# Altium schematic symbol library AD8628ARZ.SchLib: 2 symbols
Pins are listed as number, name and electrical type; pins without a type are passive.

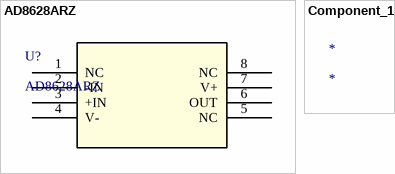
[diagram p0: symbols AD8628ARZ to Component_1]

## AD8628ARZ
designator U?
No Description Available; Mfr_Name: Analog Devices Inc; Copyright: Copyright (C) 2021 Ultra Librarian. All rights reserved.; Manufacturer_Part_Number: AD8628ARZ; RefDes: RefDes; Type: DEV
footprint R_8_ADI
pins: 1 NC, 2 -IN, 3 +IN, 4 V- (power), 5 NC, 6 OUT, 7 V+ (power), 8 NC

## Component_1
designator *